# Altium schematic symbol library SEN-13879.SchLib: 1 symbol
Pins are listed as number, name and electrical type; pins without a type are passive.

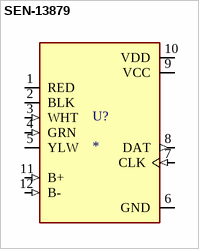
[diagram p0: symbol SEN-13879]

## SEN-13879
designator U?
Load Cell Amp Hx711; MF: {'manufacturer': u'SparkFun'}; MP: SEN-13879; Package: None; Price: None; Value: *; Availability: Unavailable
footprint SPARKFUN_SEN-13879
pins: 1 RED (io), 2 BLK (io), 3 WHT (in), 4 GRN (in), 5 YLW (io), 6 GND (power), 7 CLK (in), 8 DAT (out), 9 VCC (power), 10 VDD (power), 11 B+ (in), 12 B- (in)